# Altium schematic symbol library U_NEO-M9N-00B.SchLib: 1 symbol
Pins are listed as number, name and electrical type; pins without a type are passive.

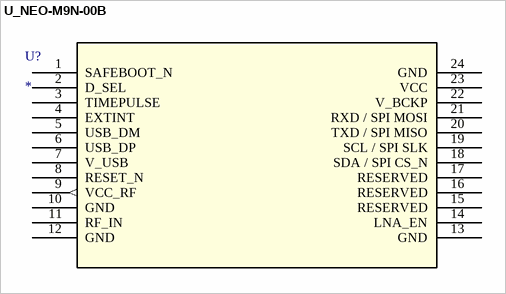
[diagram p0: symbol U_NEO-M9N-00B]

## U_NEO-M9N-00B
designator U?
Mfr_Name: Ublox; RefDes: RefDes; Type: Type
footprint XCVR_NEO-M9N-00B
pins: 1 SAFEBOOT_N, 2 D_SEL, 3 TIMEPULSE, 4 EXTINT, 5 USB_DM, 6 USB_DP, 7 V_USB, 8 RESET_N, 9 VCC_RF (out), 10 GND (power), 11 RF_IN, 12 GND (power), 13 GND (power), 14 LNA_EN, 15 RESERVED, 16 RESERVED, 17 RESERVED, 18 SDA / SPI CS_N, 19 SCL / SPI SLK, 20 TXD / SPI MISO, 21 RXD / SPI MOSI, 22 V_BCKP, 23 VCC (power), 24 GND (power)